# EAGLE library part 52610-1133 (library molex)
FPC 1MM, VERTICAL (MAXON)
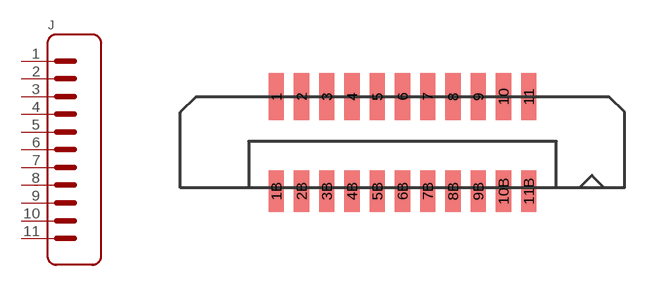
[diagram p2: symbol with the pads of 52610-1133; footprint 52610-1133]

Designator prefix J

## 52610-1133  [52610-1133]
1  1
2  2
3  3
4  4
5  5
6  6
7  7
8  8
9  9
10  10
11  11

## Footprint 52610-1133 (pad centres in mm)
NOTE: footprint is technically "BACKWARDS" but this matches the MAXON EC-FLAT layout
smd 0.6 x 1.85: 1 -5,0.025; 2 -4,0.025; 3 -3,0.025; 4 -2,0.025; 5 -1,0.025; 6 0,0.025; 7 1,0.025; 8 2,0.025; 9 3,0.025; 10 4,0.025; 11 5,0.025
smd 0.6 x 1.65: 1B -5,-3.725; 2B -4,-3.725; 3B -3,-3.725; 4B -2,-3.725; 5B -1,-3.725; 6B 0,-3.725; 7B 1,-3.725; 8B 2,-3.725; 9B 3,-3.725; 10B 4,-3.725; 11B 5,-3.725